# Altium footprint library EISI.PcbLib: 695 footprints (part 43 of 44)
Each footprint in its own frame and in the unit in brackets; x right, y up, seen from the top. Pads: shape width x height; smd on the part's side, far side on the other; paste and mask are expansions set on the pad; w line width, h text height; cw(c..) or ccw(c..) is an arc to the next point about the centre after c.
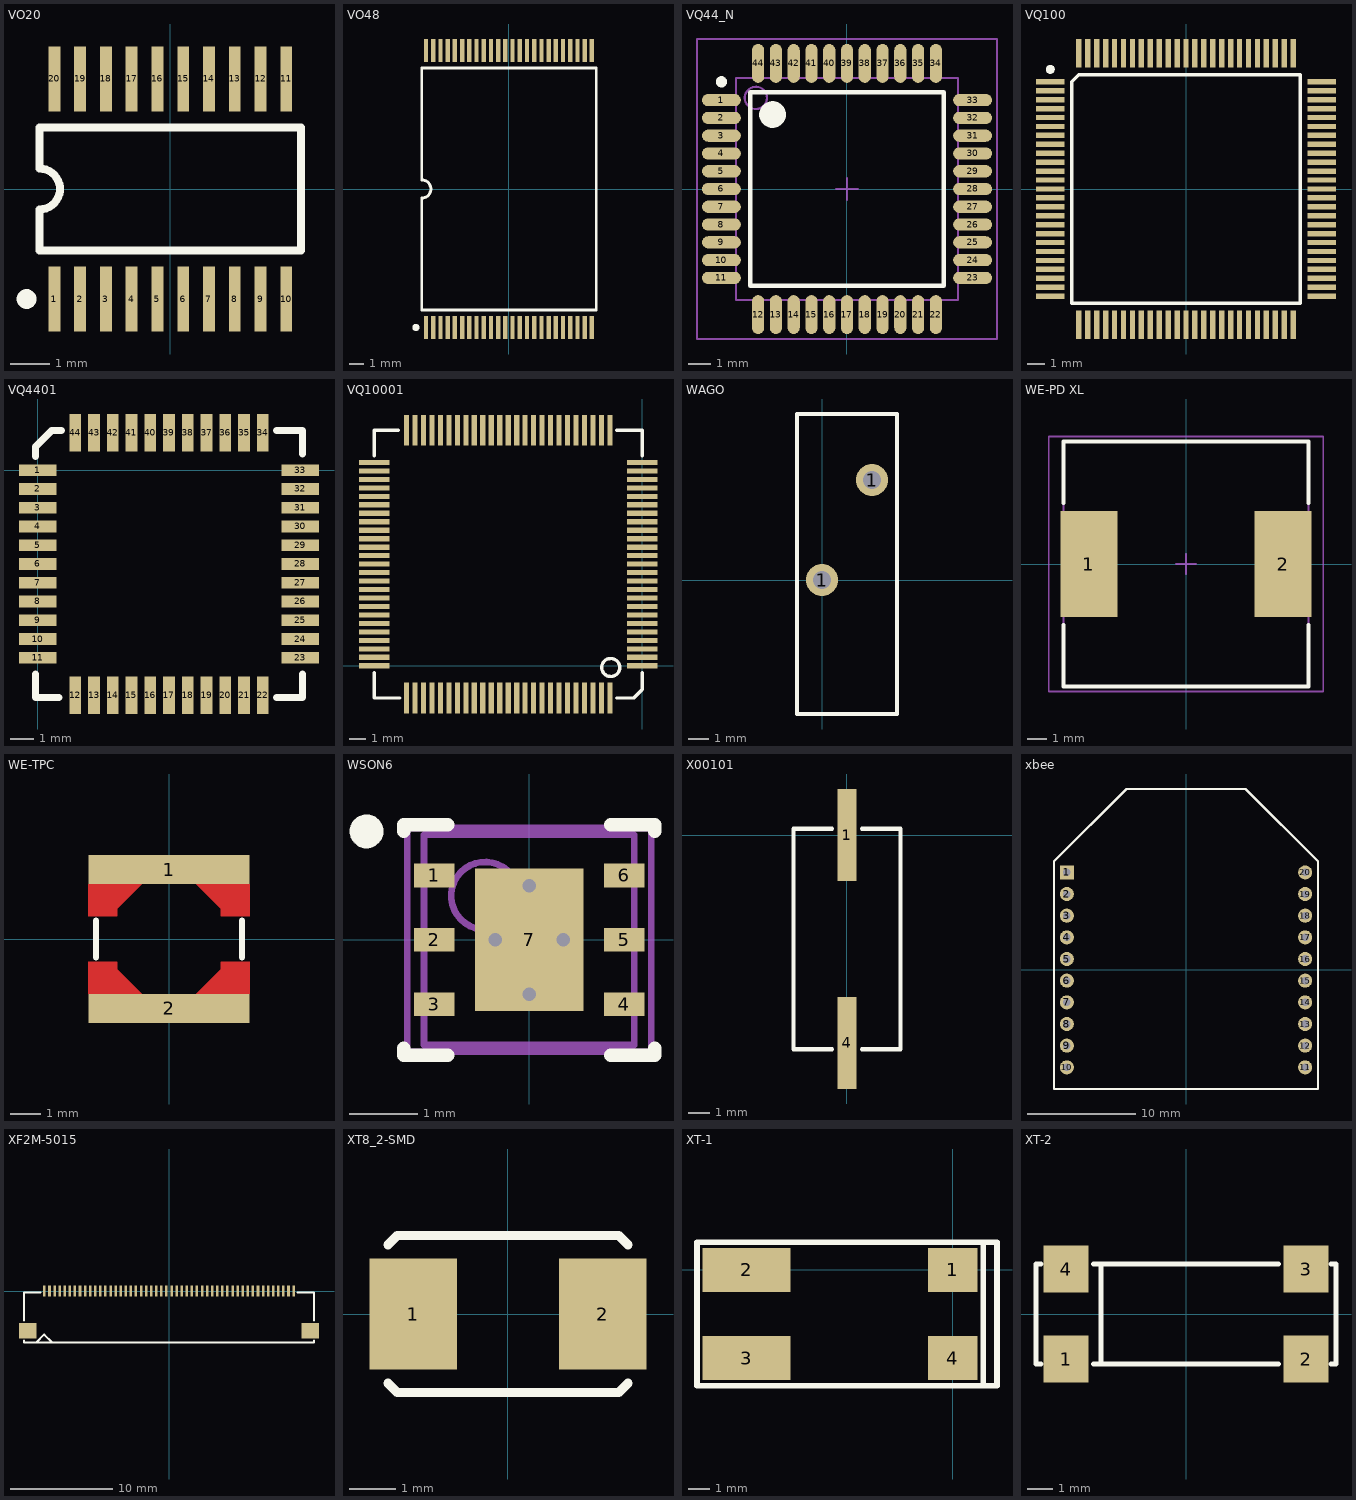
[diagram p42: the footprints below, top view; thin cyan lines are the x and y axes]

## VO20 [mm]
pads (20):
  rect 0.3x1.65 smd: 1(-2.925,-2.775) 2(-2.275,-2.775) 3(-1.625,-2.775) 4(-0.975,-2.775) 5(-0.325,-2.775) 6(0.325,-2.775) 7(0.975,-2.775) 8(1.625,-2.775) 9(2.275,-2.775) 10(2.925,-2.775) 11(2.925,2.775) 12(2.275,2.775) 13(1.625,2.775) 14(0.975,2.775) 15(0.325,2.775) 16(-0.325,2.775) 17(-0.975,2.775) 18(-1.625,2.775) 19(-2.275,2.775) 20(-2.925,2.775)
TopOverlay:
  circle w0.25: c-3.625,-2.775 r0.125
  lines w0.2: -3.3,-1.55 3.3,-1.55 3.3,1.55 -3.3,1.55 -3.3,0.517 cw(c-3.3,0) -3.3,-0.517 -3.3,-1.55

## VO48 [mm]
pads (48):
  rect 0.3x1.6 smd: 1(-5.75,-9.6) 2(-5.25,-9.6) 3(-4.75,-9.6) 4(-4.25,-9.6) 5(-3.75,-9.6) 6(-3.25,-9.6) 7(-2.75,-9.6) 8(-2.25,-9.6) 9(-1.75,-9.6) 10(-1.25,-9.6) 11(-0.75,-9.6) 12(-0.25,-9.6) 13(0.25,-9.6) 14(0.75,-9.6) 15(1.25,-9.6) 16(1.75,-9.6) 17(2.25,-9.6) 18(2.75,-9.6) 19(3.25,-9.6) 20(3.75,-9.6) 21(4.25,-9.6) 22(4.75,-9.6) 23(5.25,-9.6) 24(5.75,-9.6) 25(5.75,9.6) 26(5.25,9.6) 27(4.75,9.6) 28(4.25,9.6) 29(3.75,9.6) 30(3.25,9.6) 31(2.75,9.6) 32(2.25,9.6) 33(1.75,9.6) 34(1.25,9.6) 35(0.75,9.6) 36(0.25,9.6) 37(-0.25,9.6) 38(-0.75,9.6) 39(-1.25,9.6) 40(-1.75,9.6) 41(-2.25,9.6) 42(-2.75,9.6) 43(-3.25,9.6) 44(-3.75,9.6) 45(-4.25,9.6) 46(-4.75,9.6) 47(-5.25,9.6) 48(-5.75,9.6)
TopOverlay:
  circle w0.25: c-6.45,-9.6 r0.125
  lines w0.2: -6.05,-8.4 6.05,-8.4 6.05,8.4 -6.05,8.4 -6.05,0.635 cw(c-6.05,0) -6.05,-0.635 -6.05,-8.4

## VQ44_N [mm] "44-Pin Very Thin Quad Flat Pack (VQ44), IPC Medium Density"
height 1.2
pads (44):
  oval 1.75x0.55 smd: 1(-5.65,4) 2(-5.65,3.2) 3(-5.65,2.4) 4(-5.65,1.6) 5(-5.65,0.8) 6(-5.65,0) 7(-5.65,-0.8) 8(-5.65,-1.6) 9(-5.65,-2.4) 10(-5.65,-3.2) 11(-5.65,-4) 23(5.65,-4) 24(5.65,-3.2) 25(5.65,-2.4) 26(5.65,-1.6) 27(5.65,-0.8) 28(5.65,0) 29(5.65,0.8) 30(5.65,1.6) 31(5.65,2.4) 32(5.65,3.2) 33(5.65,4)
  oval 0.55x1.75 smd: 12(-4,-5.65) 13(-3.2,-5.65) 14(-2.4,-5.65) 15(-1.6,-5.65) 16(-0.8,-5.65) 17(0,-5.65) 18(0.8,-5.65) 19(1.6,-5.65) 20(2.4,-5.65) 21(3.2,-5.65) 22(4,-5.65) 34(4,5.65) 35(3.2,5.65) 36(2.4,5.65) 37(1.6,5.65) 38(0.8,5.65) 39(0,5.65) 40(-0.8,5.65) 41(-1.6,5.65) 42(-2.4,5.65) 43(-3.2,5.65) 44(-4,5.65)
TopOverlay:
  circle w0.6: c-3.35,3.35 r0.3
  circle w0.25: c-5.65,4.825 r0.125
  lines w0.2: -4.35,-4.35 4.35,-4.35 4.35,4.35 -4.35,4.35 -4.35,-4.35
Mechanical13:
  circle w0.1: c-4.1,4.1 r0.5
  lines w0.1: -5,-5 5,-5 5,5 -5,5 -5,-5
Mechanical15:
  lines w0.1: -0.5,0 0.5,0 ; 0,-0.5 0,0.5 ; -6.75,-6.75 6.75,-6.75 6.75,6.75 -6.75,6.75 -6.75,-6.75
3D body: height 1.2, standoff 0, extent -5,-5 5,5

## VQ100 [mm] "100-Pin Very Thin Quad Flat Pack (VQ100)"
height 1.2
pads (100):
  rect 1.6x0.3 smd: 1(-7.6,6) 2(-7.6,5.5) 3(-7.6,5) 4(-7.6,4.5) 5(-7.6,4) 6(-7.6,3.5) 7(-7.6,3) 8(-7.6,2.5) 9(-7.6,2) 10(-7.6,1.5) 11(-7.6,1) 12(-7.6,0.5) 13(-7.6,0) 14(-7.6,-0.5) 15(-7.6,-1) 16(-7.6,-1.5) 17(-7.6,-2) 18(-7.6,-2.5) 19(-7.6,-3) 20(-7.6,-3.5) 21(-7.6,-4) 22(-7.6,-4.5) 23(-7.6,-5) 24(-7.6,-5.5) 25(-7.6,-6) 51(7.6,-6) 52(7.6,-5.5) 53(7.6,-5) 54(7.6,-4.5) 55(7.6,-4) 56(7.6,-3.5) 57(7.6,-3) 58(7.6,-2.5) 59(7.6,-2) 60(7.6,-1.5) 61(7.6,-1) 62(7.6,-0.5) 63(7.6,0) 64(7.6,0.5) 65(7.6,1) 66(7.6,1.5) 67(7.6,2) 68(7.6,2.5) 69(7.6,3) 70(7.6,3.5) 71(7.6,4) 72(7.6,4.5) 73(7.6,5) 74(7.6,5.5) 75(7.6,6)
  rect 0.3x1.6 smd: 26(-6,-7.6) 27(-5.5,-7.6) 28(-5,-7.6) 29(-4.5,-7.6) 30(-4,-7.6) 31(-3.5,-7.6) 32(-3,-7.6) 33(-2.5,-7.6) 34(-2,-7.6) 35(-1.5,-7.6) 36(-1,-7.6) 37(-0.5,-7.6) 38(0,-7.6) 39(0.5,-7.6) 40(1,-7.6) 41(1.5,-7.6) 42(2,-7.6) 43(2.5,-7.6) 44(3,-7.6) 45(3.5,-7.6) 46(4,-7.6) 47(4.5,-7.6) 48(5,-7.6) 49(5.5,-7.6) 50(6,-7.6) 76(6,7.6) 77(5.5,7.6) 78(5,7.6) 79(4.5,7.6) 80(4,7.6) 81(3.5,7.6) 82(3,7.6) 83(2.5,7.6) 84(2,7.6) 85(1.5,7.6) 86(1,7.6) 87(0.5,7.6) 88(0,7.6) 89(-0.5,7.6) 90(-1,7.6) 91(-1.5,7.6) 92(-2,7.6) 93(-2.5,7.6) 94(-3,7.6) 95(-3.5,7.6) 96(-4,7.6) 97(-4.5,7.6) 98(-5,7.6) 99(-5.5,7.6) 100(-6,7.6)
TopOverlay:
  circle w0.25: c-7.6,6.7 r0.125
  lines w0.2: -6.4,-6.4 6.4,-6.4 6.4,6.4 -6,6.4 -6.4,6 -6.4,-6.4

## VQ4401 [mm]
pads (44):
  rect 1.6x0.5 smd: 1(0,0) 2(0,-0.8) 3(0,-1.6) 4(0,-2.4) 5(0,-3.2) 6(0,-4) 7(0,-4.8) 8(0,-5.6) 9(0,-6.4) 10(0,-7.2) 11(0,-8) 23(11.2,-8) 24(11.2,-7.2) 25(11.2,-6.4) 26(11.2,-5.6) 27(11.2,-4.8) 28(11.2,-4) 29(11.2,-3.2) 30(11.2,-2.4) 31(11.2,-1.6) 32(11.2,-0.8) 33(11.2,0)
  rect 0.5x1.6 smd: 12(1.6,-9.6) 13(2.4,-9.6) 14(3.2,-9.6) 15(4,-9.6) 16(4.8,-9.6) 17(5.6,-9.6) 18(6.4,-9.6) 19(7.2,-9.6) 20(8,-9.6) 21(8.8,-9.6) 22(9.6,-9.6) 34(9.6,1.6) 35(8.8,1.6) 36(8,1.6) 37(7.2,1.6) 38(6.4,1.6) 39(5.6,1.6) 40(4.8,1.6) 41(4,1.6) 42(3.2,1.6) 43(2.4,1.6) 44(1.6,1.6)
TopOverlay:
  lines w0.305: -0.1,-8.7 -0.1,-9.7 0.9,-9.7 ; -0.1,0.6 -0.1,1 0.6,1.7 1,1.7 ; 10.2,-9.7 11.3,-9.7 11.3,-8.7 ; 10.2,1.7 11.3,1.7 11.3,0.7

## VQ10001 [mil]
pads (100):
  rect 71x12 smd: 1(0,0) 2(0,19.68) 3(0,39.37) 4(0,59.06) 5(0,78.74) 6(0,98.43) 7(0,118.11) 8(0,137.8) 9(0,157.48) 10(0,177.17) 11(0,196.85) 12(0,216.54) 13(0,236.22) 14(0,255.91) 15(0,275.59) 16(0,295.28) 17(0,314.96) 18(0,334.65) 19(0,354.33) 20(0,374.02) 21(0,393.7) 22(0,413.39) 23(0,433.07) 24(0,452.76) 25(0,472.44) 51(-622.05,472.44) 52(-622.05,452.76) 53(-622.05,433.07) 54(-622.05,413.39) 55(-622.05,393.7) 56(-622.05,374.02) 57(-622.05,354.33) 58(-622.05,334.65) 59(-622.05,314.96) 60(-622.05,295.28) 61(-622.05,275.59) 62(-622.05,255.91) 63(-622.05,236.22) 64(-622.05,216.53) 65(-622.05,196.85) 66(-622.05,177.17) 67(-622.05,157.48) 68(-622.05,137.8) 69(-622.05,118.11) 70(-622.05,98.43) 71(-622.05,78.74) 72(-622.05,59.06) 73(-622.05,39.37) 74(-622.05,19.68) 75(-622.05,0)
  rect 12x71 smd: 26(-74.8,547.24) 27(-94.49,547.24) 28(-114.17,547.24) 29(-133.86,547.24) 30(-153.54,547.24) 31(-173.23,547.24) 32(-192.91,547.24) 33(-212.6,547.24) 34(-232.28,547.24) 35(-251.97,547.24) 36(-271.65,547.24) 37(-291.34,547.24) 38(-311.02,547.24) 39(-330.71,547.24) 40(-350.39,547.24) 41(-370.08,547.24) 42(-389.76,547.24) 43(-409.45,547.24) 44(-429.13,547.24) 45(-448.82,547.24) 46(-468.5,547.24) 47(-488.19,547.24) 48(-507.87,547.24) 49(-527.56,547.24) 50(-547.24,547.24) 76(-547.24,-74.8) 77(-527.56,-74.8) 78(-507.87,-74.8) 79(-488.19,-74.8) 80(-468.5,-74.8) 81(-448.82,-74.8) 82(-429.13,-74.8) 83(-409.45,-74.8) 84(-389.76,-74.8) 85(-370.08,-74.8) 86(-350.39,-74.8) 87(-330.71,-74.8) 88(-311.02,-74.8) 89(-291.34,-74.8) 90(-271.65,-74.8) 91(-251.97,-74.8) 92(-232.28,-74.8) 93(-212.6,-74.8) 94(-192.91,-74.8) 95(-173.23,-74.8) 96(-153.54,-74.8) 97(-133.86,-74.8) 98(-114.17,-74.8) 99(-94.49,-74.8) 100(-74.8,-74.8)
TopOverlay:
  circle w8: c-72.83,-3.94 r20.93
  lines w7.87: -622.05,-15.75 -622.05,-74.8 -562.99,-74.8 ; -622.05,488.19 -622.05,547.24 -566.93,547.24 ; -59.06,-74.8 -19.68,-74.8 0,-55.12 0,-15.75 ; -59.06,547.24 0,547.24 0,488.19
TopSolder:
  rectangle: -37,-8 37,480
  rectangle: -555,-112 -67,-37
  rectangle: -660,-7 -585,481
  rectangle: -555,510 -67,585

## WAGO [mm] "Bornier Wago 804-107"
height 14.4
pads (2):
  round 1.6 hole 0.9: 1(0,0) 1(2.5,5)
TopOverlay:
  lines w0.2: -1.25,-6.7 3.75,-6.7 3.75,8.3 -1.25,8.3 -1.25,-6.7

## WE-PD XL [mm] "SMD Inductor, 2-Leads, Body 12,0x12,0mm"
height 8
pads (2):
  rect 2.9x5.4 smd: 1(-4.95,0) 2(4.95,0)
TopOverlay:
  lines w0.2: -6.25,-3.1 -6.25,-6.25 6.25,-6.25 6.25,-3.1 ; -6.25,3.1 -6.25,6.25 6.25,6.25 6.25,3.1
Mechanical13:
  lines w0.1: -6.25,-6.25 -6.25,6.25 6.25,6.25 6.25,-6.25 -6.25,-6.25
Mechanical15:
  lines w0.1: -0.5,0 0.5,0 ; 0,-0.5 0,0.5 ; -7,-6.5 -7,6.5 7,6.5 7,-6.5 -7,-6.5
3D body: height 7.99, standoff -0.01, extent -6,-6 6,6

## WE-TPC [mm] "Bobine Würth 4.8 x 4.8mm"
height 2.8
pads (2):
  rect 5.3x0.95 smd: 1(0,2.275) 2(0,-2.275)
TopLayer:
  region: -2.65,1.8 -2.65,0.75 -1.7,0.75 -1.7,1 -0.9,1.8
  region: 2.65,1.8 2.65,0.75 1.7,0.75 1.7,1 0.9,1.8
  region: 2.65,-1.8 2.65,-0.75 1.7,-0.75 1.7,-1 0.9,-1.8
  region: -2.65,-1.8 -2.65,-0.75 -1.7,-0.75 -1.7,-1 -0.9,-1.8
TopOverlay:
  lines w0.2: -2.4,-0.6 -2.4,0.6 ; 2.4,-0.6 2.4,0.6
TopSolder:
  region: 2.75,-1.7 2.75,-0.65 1.6,-0.65 1.6,-0.95 0.85,-1.7
  region: -2.75,-1.7 -2.75,-0.65 -1.6,-0.65 -1.6,-0.95 -0.85,-1.7
  region: 2.75,1.7 2.75,0.65 1.6,0.65 1.6,0.95 0.85,1.7
  region: -2.75,1.7 -2.75,0.65 -1.6,0.65 -1.6,0.95 -0.85,1.7

## WSON6 [mm] "SON, 6-Leads, Body 3x3 mm, Pitch 0.95mm"
height 0.8
pads (7):
  rect 0.6x0.35 smd paste-0.175 mask+0.051: 1(-1.4,0.95) 2(-1.4,0) 3(-1.4,-0.95) 4(1.4,-0.95) 5(1.4,0) 6(1.4,0.95)
  rect 1.6x2.1 smd paste-0.8 mask+0.051: 7(0,0)
via 0,-0.8 diameter 0.5 hole 0.2
via 0.5,0 diameter 0.5 hole 0.2
via 0,0.8 diameter 0.5 hole 0.2
via -0.5,0 diameter 0.5 hole 0.2
TopOverlay:
  circle w0.25: c-2.4,1.6 r0.125
  lines w0.2: -1.85,-1.6 -1.85,-1.7 -1.2,-1.7 ; -1.85,1.6 -1.85,1.7 -1.2,1.7 ; 1.2,-1.7 1.85,-1.7 1.85,-1.6 ; 1.2,1.7 1.85,1.7 1.85,1.6
TopPaste:
  rectangle: -0.76,-1 0.76,1
  region: 1.9,1.125 1.2,1.125 1.2,0.775 1.9,0.775
  region: 1.9,0.175 1.2,0.175 1.2,-0.175 1.9,-0.175
  region: 1.9,-0.775 1.2,-0.775 1.2,-1.125 1.9,-1.125
  rectangle: -1.9,-1.125 -1.2,-0.775
  rectangle: -1.9,-0.175 -1.2,0.175
  rectangle: -1.9,0.775 -1.2,1.125
Mechanical13:
  circle w0.1: c-0.65,0.65 r0.5
  lines w0.1: -1.55,-1.55 1.55,-1.55 1.55,1.55 -1.55,1.55 -1.55,-1.55
Mechanical15:
  lines w0.1: -0.5,0 0.5,0 ; 0,-0.5 0,0.5 ; -1.8,-1.65 -1.8,1.65 1.8,1.65 1.8,-1.65 -1.8,-1.65
3D body: height 0.8, standoff 0, extent -1.55,-1.55 1.55,1.55

## X00101 [mm]
pads (2):
  rect 0.9x4.3 smd: 1(0,0) 4(0,-9.7)
TopOverlay:
  lines w0.2: -0.7,-10 -2.5,-10 -2.5,0.3 -0.7,0.3 ; 0.7,-10 2.5,-10 2.5,0.3 0.7,0.3

## xbee [mm]
pads (20):
  rect 1.3x1.3 hole 0.7: 1(-11,9)
  round 1.3 hole 0.7: 2(-11,7) 3(-11,5) 4(-11,3) 5(-11,1) 6(-11,-1) 7(-11,-3) 8(-11,-5) 9(-11,-7) 10(-11,-9) 11(11,-9) 12(11,-7) 13(11,-5) 14(11,-3) 15(11,-1) 16(11,1) 17(11,3) 18(11,5) 19(11,7) 20(11,9)
TopOverlay:
  lines w0.2: -12.2,10 -12.2,-11 12.2,-11 12.2,10 5.5,16.7 4.6,16.7 -4.6,16.7 -5.5,16.7 -12.2,10 ; -12.2,10 -12.2,10

## XF2M-5015 [mm] "CONN FPC 50POS 0.5MM PITCH"
height 3.1
pads (52):
  rect 0.25x1.1 smd: 1(-12.25,0) 2(-11.75,0) 3(-11.25,0) 4(-10.75,0) 5(-10.25,0) 6(-9.75,0) 7(-9.25,0) 8(-8.75,0) 9(-8.25,0) 10(-7.75,0) 11(-7.25,0) 12(-6.75,0) 13(-6.25,0) 14(-5.75,0) 15(-5.25,0) 16(-4.75,0) 17(-4.25,0) 18(-3.75,0) 19(-3.25,0) 20(-2.75,0) 21(-2.25,0) 22(-1.75,0) 23(-1.25,0) 24(-0.75,0) 25(-0.25,0) 26(0.25,0) 27(0.75,0) 28(1.25,0) 29(1.75,0) 30(2.25,0) 31(2.75,0) 32(3.25,0) 33(3.75,0) 34(4.25,0) 35(4.75,0) 36(5.25,0) 37(5.75,0) 38(6.25,0) 39(6.75,0) 40(7.25,0) 41(7.75,0) 42(8.25,0) 43(8.75,0) 44(9.25,0) 45(9.75,0) 46(10.25,0) 47(10.75,0) 48(11.25,0) 49(11.75,0) 50(12.25,0)
  rect 1.7x1.5 smd: ""(-13.9,-3.9) ""(13.9,-3.9)
TopOverlay:
  lines w0.2: -14.25,-4.85 -14.25,-5.05 14.25,-5.05 14.25,-4.85 ; -14.25,-2.9 -14.25,-0.15 -12.65,-0.15 ; -13.05,-5.05 -12.25,-4.25 ; -11.475,-5.05 -12.25,-4.275 -12.25,-4.25 ; 12.65,-0.15 14.25,-0.15 14.25,-2.9 ; -12.25,-4.25 -12.25,-4.25

## XT8_2-SMD [mm] "Quartz 5.00mm x 3.20mm SMD"
height 1.4
pads (2):
  rect 1.9x2.4 smd: 1(-2.05,0) 2(2.05,0)
TopOverlay:
  lines w0.2: -2.6,-1.5 -2.4,-1.7 2.4,-1.7 2.6,-1.5 ; -2.6,1.5 -2.4,1.7 2.4,1.7 2.6,1.5

## XT-1 [mil]
pads (4):
  rect 90x80 smd: 1(0,0) 4(0,-160)
  rect 160x80 smd: 2(-375,0) 3(-375,-160)
TopOverlay:
  lines w10: 55,-210 55,50 ; -465,-210 80,-210 80,50 -465,50 -465,-210

## XT-2 [mm]
pads (4):
  rect 1.8x1.9 smd: 1(-4.8,-1.8) 2(4.8,-1.8) 3(4.8,1.8) 4(-4.8,1.8)
TopOverlay:
  lines w0.2: -5.8,-2 -6,-2 -6,2 -5.8,2 ; -3.7,-2 3.7,-2 ; -3.7,2 3.7,2 ; -3.4,-2 -3.4,2 ; 5.8,-2 6,-2 6,2 5.8,2